# EAGLE library part ADSP_21375 (library analog-devices)
SHARC Processor Auto generated by make-symbol-device-package-bsdl.ulp Rev. 33 Source: 816925549AD21375_2A7CB107_4651_47A7_9AAE_75132EECEAE5_bsdl.txt
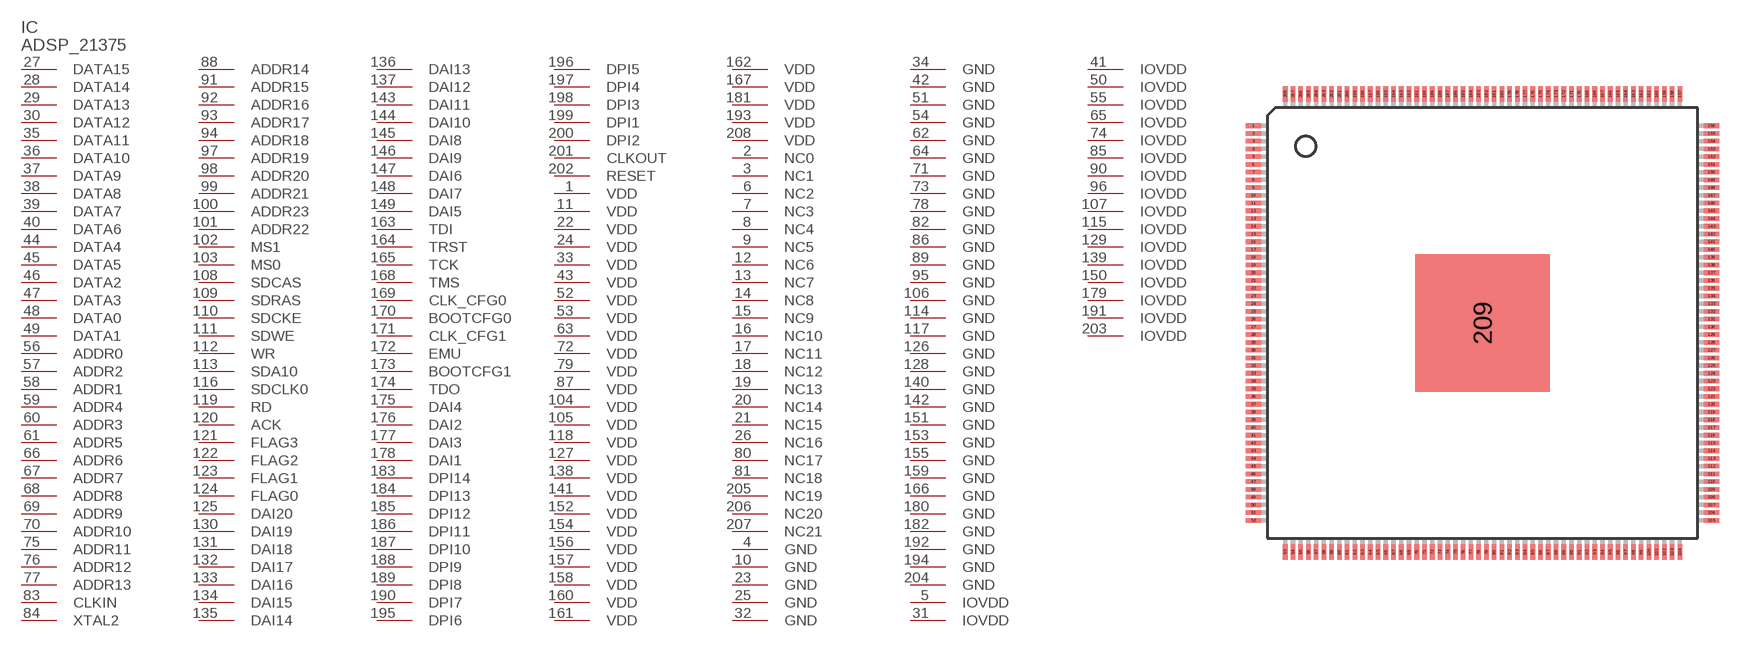
[diagram p117: symbol with the pads of LQFP208; footprint LQFP208]

Designator prefix IC

## ADSP_21375 (OC_FARNELL: 1776212; OC_NEWARK: unknown)  [LQFP208]
1  VDD  pwr
2  NC0  pas
3  NC1  pas
4  GND  pwr
5  IOVDD  pwr
6  NC2  pas
7  NC3  pas
8  NC4  pas
9  NC5  pas
10  GND  pwr
11  VDD  pwr
12  NC6  pas
13  NC7  pas
14  NC8  pas
15  NC9  pas
16  NC10  pas
17  NC11  pas
18  NC12  pas
19  NC13  pas
20  NC14  pas
21  NC15  pas
22  VDD  pwr
23  GND  pwr
24  VDD  pwr
25  GND  pwr
26  NC16  pas
27  DATA15
28  DATA14
29  DATA13
30  DATA12
31  IOVDD  pwr
32  GND  pwr
33  VDD  pwr
34  GND  pwr
35  DATA11
36  DATA10
37  DATA9
38  DATA8
39  DATA7
40  DATA6
41  IOVDD  pwr
42  GND  pwr
43  VDD  pwr
44  DATA4
45  DATA5
46  DATA2
47  DATA3
48  DATA0
49  DATA1
50  IOVDD  pwr
51  GND  pwr
52  VDD  pwr
53  VDD  pwr
54  GND  pwr
55  IOVDD  pwr
56  ADDR0  out
57  ADDR2  out
58  ADDR1  out
59  ADDR4  out
60  ADDR3  out
61  ADDR5  out
62  GND  pwr
63  VDD  pwr
64  GND  pwr
65  IOVDD  pwr
66  ADDR6  out
67  ADDR7  out
68  ADDR8  out
69  ADDR9  out
70  ADDR10  out
71  GND  pwr
72  VDD  pwr
73  GND  pwr
74  IOVDD  pwr
75  ADDR11  out
76  ADDR12  out
77  ADDR13  out
78  GND  pwr
79  VDD  pwr
80  NC17  pas
81  NC18  pas
82  GND  pwr
83  CLKIN  in
84  XTAL2  out
85  IOVDD  pwr
86  GND  pwr
87  VDD  pwr
88  ADDR14  out
89  GND  pwr
90  IOVDD  pwr
91  ADDR15  out
92  ADDR16  out
93  ADDR17  out
94  ADDR18  out
95  GND  pwr
96  IOVDD  pwr
97  ADDR19  out
98  ADDR20  out
99  ADDR21  out
100  ADDR23  out
101  ADDR22  out
102  MS1  out
103  MS0  out
104  VDD  pwr
105  VDD  pwr
106  GND  pwr
107  IOVDD  pwr
108  SDCAS  out
109  SDRAS  out
110  SDCKE  out
111  SDWE  out
112  WR  out
113  SDA10  out
114  GND  pwr
115  IOVDD  pwr
116  SDCLK0  out
117  GND  pwr
118  VDD  pwr
119  RD  out
120  ACK  in
121  FLAG3
122  FLAG2
123  FLAG1
124  FLAG0
125  DAI20
126  GND  pwr
127  VDD  pwr
128  GND  pwr
129  IOVDD  pwr
130  DAI19
131  DAI18
132  DAI17
133  DAI16
134  DAI15
135  DAI14
136  DAI13
137  DAI12
138  VDD  pwr
139  IOVDD  pwr
140  GND  pwr
141  VDD  pwr
142  GND  pwr
143  DAI11
144  DAI10
145  DAI8
146  DAI9
147  DAI6
148  DAI7
149  DAI5
150  IOVDD  pwr
151  GND  pwr
152  VDD  pwr
153  GND  pwr
154  VDD  pwr
155  GND  pwr
156  VDD  pwr
157  VDD  pwr
158  VDD  pwr
159  GND  pwr
160  VDD  pwr
161  VDD  pwr
162  VDD  pwr
163  TDI  in
164  TRST  in
165  TCK  in
166  GND  pwr
167  VDD  pwr
168  TMS  in
169  CLK_CFG0  in
170  BOOTCFG0  in
171  CLK_CFG1  in
172  EMU  out
173  BOOTCFG1  in
174  TDO  out
175  DAI4
176  DAI2
177  DAI3
178  DAI1
179  IOVDD  pwr
180  GND  pwr
181  VDD  pwr
182  GND  pwr
183  DPI14
184  DPI13
185  DPI12
186  DPI11
187  DPI10
188  DPI9
189  DPI8
190  DPI7
191  IOVDD  pwr
192  GND  pwr
193  VDD  pwr
194  GND  pwr
195  DPI6
196  DPI5
197  DPI4
198  DPI3
199  DPI1
200  DPI2
201  CLKOUT
202  RESET  in
203  IOVDD  pwr
204  GND  pwr
205  NC19  pas
206  NC20  pas
207  NC21  pas
208  VDD  pwr

## Footprint LQFP208 (pad centres in mm)
LQFP208 COMPLIANT TO JEDEC STANDARDS MS-026-BJB-HD Auto generated by make-symbol-device-package-bsdl.ulp Rev. 26 Source: http://www.analog.com/static/imported-files/data_sheets/ADSP-21367_21368_21369.pdf 71207126721367_208pinMQFP_bsdl_PrA_0106.txt
smd 1 x 0.3: 1 -14.8,12.75; 2 -14.8,12.25; 3 -14.8,11.75; 4 -14.8,11.25; 5 -14.8,10.75; 6 -14.8,10.25; 7 -14.8,9.75; 8 -14.8,9.25; 9 -14.8,8.75; 10 -14.8,8.25; 11 -14.8,7.75; 12 -14.8,7.25; 13 -14.8,6.75; 14 -14.8,6.25; 15 -14.8,5.75; 16 -14.8,5.25; 17 -14.8,4.75; 18 -14.8,4.25; 19 -14.8,3.75; 20 -14.8,3.25; 21 -14.8,2.75; 22 -14.8,2.25; 23 -14.8,1.75; 24 -14.8,1.25; 25 -14.8,0.75; 26 -14.8,0.25; 27 -14.8,-0.25; 28 -14.8,-0.75; 29 -14.8,-1.25; 30 -14.8,-1.75; 31 -14.8,-2.25; 32 -14.8,-2.75; 33 -14.8,-3.25; 34 -14.8,-3.75; 35 -14.8,-4.25; 36 -14.8,-4.75; 37 -14.8,-5.25; 38 -14.8,-5.75; 39 -14.8,-6.25; 40 -14.8,-6.75; 41 -14.8,-7.25; 42 -14.8,-7.75; 43 -14.8,-8.25; 44 -14.8,-8.75; 45 -14.8,-9.25; 46 -14.8,-9.75; 47 -14.8,-10.25; 48 -14.8,-10.75; 49 -14.8,-11.25; 50 -14.8,-11.75; 51 -14.8,-12.25; 52 -14.8,-12.75; 105 14.8,-12.75; 106 14.8,-12.25; 107 14.8,-11.75; 108 14.8,-11.25; 109 14.8,-10.75; 110 14.8,-10.25; 111 14.8,-9.75; 112 14.8,-9.25; 113 14.8,-8.75; 114 14.8,-8.25; 115 14.8,-7.75; 116 14.8,-7.25; 117 14.8,-6.75; 118 14.8,-6.25; 119 14.8,-5.75; 120 14.8,-5.25; 121 14.8,-4.75; 122 14.8,-4.25; 123 14.8,-3.75; 124 14.8,-3.25; 125 14.8,-2.75; 126 14.8,-2.25; 127 14.8,-1.75; 128 14.8,-1.25; 129 14.8,-0.75; 130 14.8,-0.25; 131 14.8,0.25; 132 14.8,0.75; 133 14.8,1.25; 134 14.8,1.75; 135 14.8,2.25; 136 14.8,2.75; 137 14.8,3.25; 138 14.8,3.75; 139 14.8,4.25; 140 14.8,4.75; 141 14.8,5.25; 142 14.8,5.75; 143 14.8,6.25; 144 14.8,6.75; 145 14.8,7.25; 146 14.8,7.75; 147 14.8,8.25; 148 14.8,8.75; 149 14.8,9.25; 150 14.8,9.75; 151 14.8,10.25; 152 14.8,10.75; 153 14.8,11.25; 154 14.8,11.75; 155 14.8,12.25; 156 14.8,12.75
smd 0.3 x 1: 53 -12.75,-14.8; 54 -12.25,-14.8; 55 -11.75,-14.8; 56 -11.25,-14.8; 57 -10.75,-14.8; 58 -10.25,-14.8; 59 -9.75,-14.8; 60 -9.25,-14.8; 61 -8.75,-14.8; 62 -8.25,-14.8; 63 -7.75,-14.8; 64 -7.25,-14.8; 65 -6.75,-14.8; 66 -6.25,-14.8; 67 -5.75,-14.8; 68 -5.25,-14.8; 69 -4.75,-14.8; 70 -4.25,-14.8; 71 -3.75,-14.8; 72 -3.25,-14.8; 73 -2.75,-14.8; 74 -2.25,-14.8; 75 -1.75,-14.8; 76 -1.25,-14.8; 77 -0.75,-14.8; 78 -0.25,-14.8; 79 0.25,-14.8; 80 0.75,-14.8; 81 1.25,-14.8; 82 1.75,-14.8; 83 2.25,-14.8; 84 2.75,-14.8; 85 3.25,-14.8; 86 3.75,-14.8; 87 4.25,-14.8; 88 4.75,-14.8; 89 5.25,-14.8; 90 5.75,-14.8; 91 6.25,-14.8; 92 6.75,-14.8; 93 7.25,-14.8; 94 7.75,-14.8; 95 8.25,-14.8; 96 8.75,-14.8; 97 9.25,-14.8; 98 9.75,-14.8; 99 10.25,-14.8; 100 10.75,-14.8; 101 11.25,-14.8; 102 11.75,-14.8; 103 12.25,-14.8; 104 12.75,-14.8; 157 12.75,14.8; 158 12.25,14.8; 159 11.75,14.8; 160 11.25,14.8; 161 10.75,14.8; 162 10.25,14.8; 163 9.75,14.8; 164 9.25,14.8; 165 8.75,14.8; 166 8.25,14.8; 167 7.75,14.8; 168 7.25,14.8; 169 6.75,14.8; 170 6.25,14.8; 171 5.75,14.8; 172 5.25,14.8; 173 4.75,14.8; 174 4.25,14.8; 175 3.75,14.8; 176 3.25,14.8; 177 2.75,14.8; 178 2.25,14.8; 179 1.75,14.8; 180 1.25,14.8; 181 0.75,14.8; 182 0.25,14.8; 183 -0.25,14.8; 184 -0.75,14.8; 185 -1.25,14.8; 186 -1.75,14.8; 187 -2.25,14.8; 188 -2.75,14.8; 189 -3.25,14.8; 190 -3.75,14.8; 191 -4.25,14.8; 192 -4.75,14.8; 193 -5.25,14.8; 194 -5.75,14.8; 195 -6.25,14.8; 196 -6.75,14.8; 197 -7.25,14.8; 198 -7.75,14.8; 199 -8.25,14.8; 200 -8.75,14.8; 201 -9.25,14.8; 202 -9.75,14.8; 203 -10.25,14.8; 204 -10.75,14.8; 205 -11.25,14.8; 206 -11.75,14.8; 207 -12.25,14.8; 208 -12.75,14.8
smd 8.712 x 8.89: 209 0,0